# EAGLE library part DS1024-2_10R2 (library DS1024-2_10R2)
Socket; pin strips; female; PIN: 20; angled 90; 2.54mm; THT; 2x10 Source: Datasheet <https://en.connfly.com/static/upload/file/pdf/DS1024.pdf>
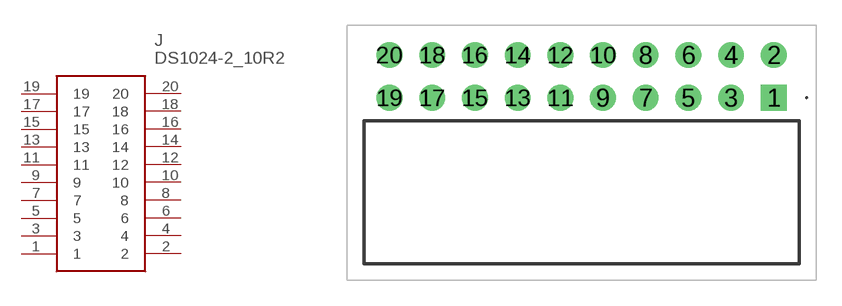
[diagram p0: symbol with the pads of DS1024210R2; footprint DS1024210R2]

Designator prefix J

## DS1024-2_10R2 (Description: Socket; pin strips; female; PIN: 20; angled 90; 2.54mm; THT; 2x10; Height: 5.25mm; Manufacturer_Name: Connfly; Manufacturer_Part_Number: DS1024-2*10R2)  [DS1024210R2]
1  1
2  2
3  3
4  4
5  5
6  6
7  7
8  8
9  9
10  10
11  11
12  12
13  13
14  14
15  15
16  16
17  17
18  18
19  19
20  20

## Footprint DS1024210R2 (pad centres in mm)
DS1024-2*10R2-1
drill 1.02 pad 1.53 square: 1 0,0
drill 1.02 pad 1.53: 2 0,2.54; 3 -2.54,0; 4 -2.54,2.54; 5 -5.08,0; 6 -5.08,2.54; 7 -7.62,0; 8 -7.62,2.54; 9 -10.16,0; 10 -10.16,2.54; 11 -12.7,0; 12 -12.7,2.54; 13 -15.24,0; 14 -15.24,2.54; 15 -17.78,0; 16 -17.78,2.54; 17 -20.32,0; 18 -20.32,2.54; 19 -22.86,0; 20 -22.86,2.54